# Altium integrated library Resistors.IntLib: 4954 symbols (part 24 of 32)
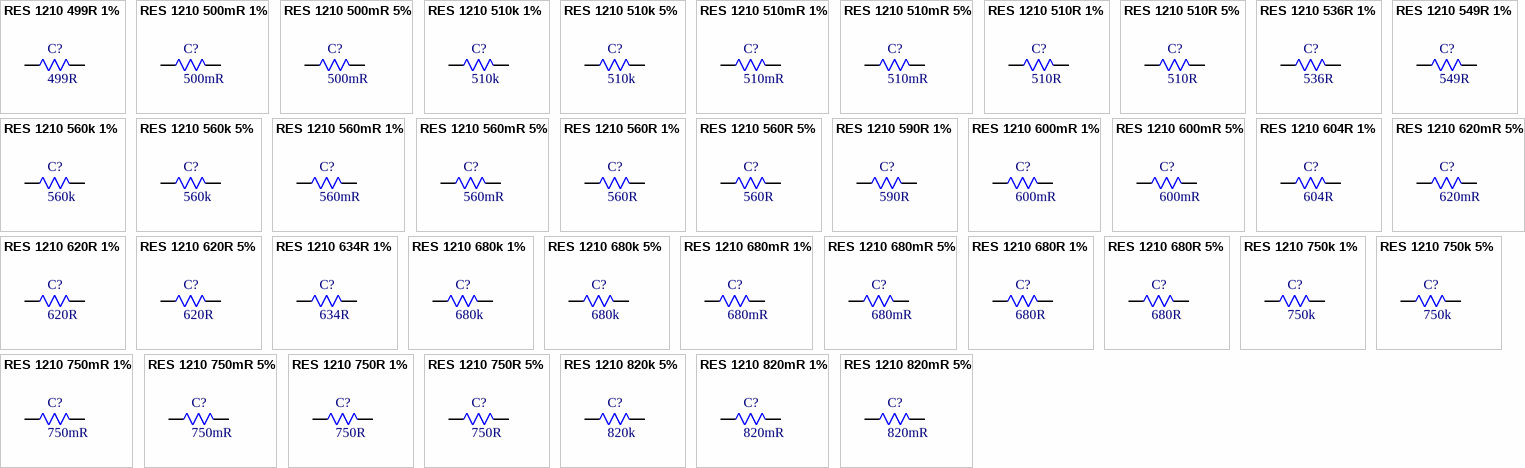
[diagram p146: symbols RES 1210 499R 1% to RES 1210 820mR 5%]

## RES 1210 820mR 1%
designator C?, comment 820mR
820mR 1% 500mW 1210 Thick Film Resistor; Manufacturer: FOJAN; Manufacturer Part Number: FRL1210FR820TS; Voltage Rating: 500V; Supplier: LCSC; Supplier Part Number: C2960866; Resistance: 820mR; Tolerance: 1%; Power: 500mW
footprint RES SMD 1210
pins: 1, 2

## RES 1210 820mR 5%
designator C?, comment 820mR
820mR 5% 500mW 1210 Thick Film Resistor; Manufacturer: FOJAN; Manufacturer Part Number: FRL1210JR820TS; Voltage Rating: 500V; Supplier: LCSC; Supplier Part Number: C2934340; Resistance: 820mR; Tolerance: 5%; Power: 500mW
footprint RES SMD 1210
pins: 1, 2

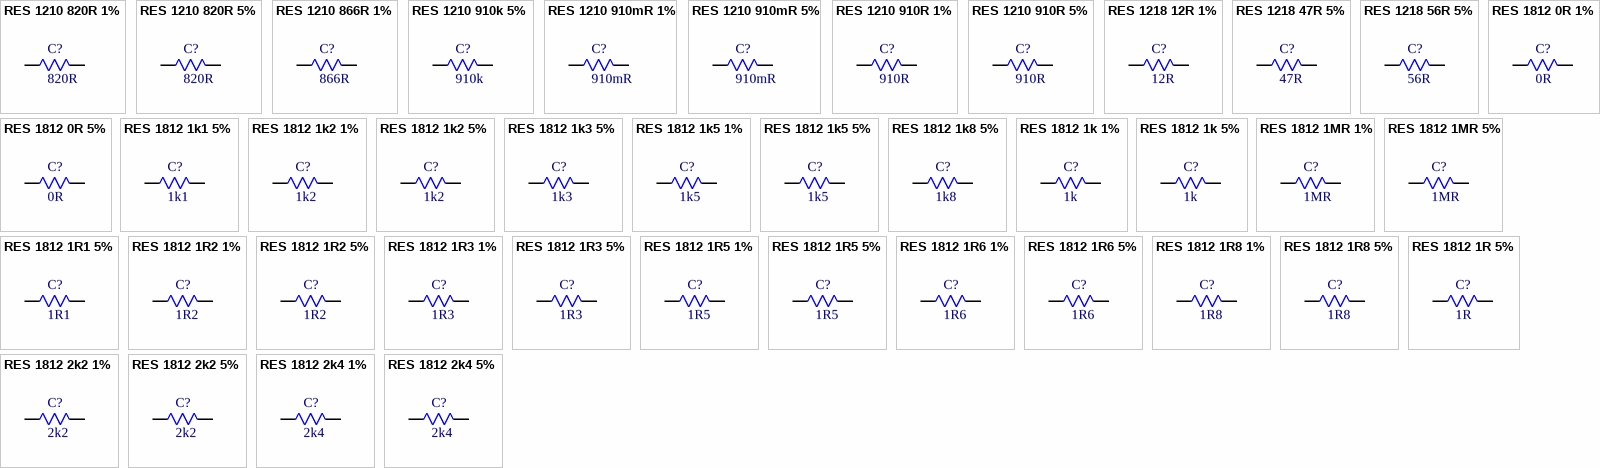
[diagram p92: symbols RES 1210 820R 1% to RES 1812 2k4 5%]

## RES 1210 820R 1%
designator C?, comment 820R
820R 1% 500mW 1210 Thick Film Resistor; Manufacturer: FOJAN; Manufacturer Part Number: FRC1210F8200TS; Voltage Rating: 200V; Supplier: LCSC; Supplier Part Number: C3013285; Resistance: 820R; Tolerance: 1%; Power: 500mW
footprint RES SMD 1210
pins: 1, 2

## RES 1210 820R 5%
designator C?, comment 820R
820R 5% 500mW 1210 Thick Film Resistor; Manufacturer: FOJAN; Manufacturer Part Number: FRC1210J821 TS; Voltage Rating: 200V; Supplier: LCSC; Supplier Part Number: C2907554; Resistance: 820R; Tolerance: 5%; Power: 500mW
footprint RES SMD 1210
pins: 1, 2

## RES 1210 866R 1%
designator C?, comment 866R
866R 1% 500mW 1210 Thick Film Resistor; Manufacturer: FOJAN; Manufacturer Part Number: FRC1210F8660TS; Voltage Rating: 200V; Supplier: LCSC; Supplier Part Number: C42372191; Resistance: 866R; Tolerance: 1%; Power: 500mW
footprint RES SMD 1210
pins: 1, 2

## RES 1210 910k 5%
designator C?, comment 910k
910kR 5% 500mW 1210 Thick Film Resistor; Manufacturer: FOJAN; Manufacturer Part Number: FRC1210J914 TS; Voltage Rating: 200V; Supplier: LCSC; Supplier Part Number: C5713345; Resistance: 910k; Tolerance: 5%; Power: 500mW
footprint RES SMD 1210
pins: 1, 2

## RES 1210 910mR 1%
designator C?, comment 910mR
910mR 1% 500mW 1210 Thick Film Resistor; Manufacturer: FOJAN; Manufacturer Part Number: FRL1210FR910TS; Voltage Rating: 500V; Supplier: LCSC; Supplier Part Number: C2960727; Resistance: 910mR; Tolerance: 1%; Power: 500mW
footprint RES SMD 1210
pins: 1, 2

## RES 1210 910mR 5%
designator C?, comment 910mR
910mR 5% 500mW 1210 Thick Film Resistor; Manufacturer: FOJAN; Manufacturer Part Number: FRL1210JR910TS; Voltage Rating: 500V; Supplier: LCSC; Supplier Part Number: C2930451; Resistance: 910mR; Tolerance: 5%; Power: 500mW
footprint RES SMD 1210
pins: 1, 2

## RES 1210 910R 1%
designator C?, comment 910R
910R 1% 500mW 1210 Thick Film Resistor; Manufacturer: FOJAN; Manufacturer Part Number: FRC1210F9100TS; Voltage Rating: 200V; Supplier: LCSC; Supplier Part Number: C3000546; Resistance: 910R; Tolerance: 1%; Power: 500mW
footprint RES SMD 1210
pins: 1, 2

## RES 1210 910R 5%
designator C?, comment 910R
910R 5% 500mW 1210 Thick Film Resistor; Manufacturer: FOJAN; Manufacturer Part Number: FRC1210J911 TS; Voltage Rating: 200V; Supplier: LCSC; Supplier Part Number: C3013290; Resistance: 910R; Tolerance: 5%; Power: 500mW
footprint RES SMD 1210
pins: 1, 2

## RES 1218 12R 1%
designator C?, comment 12R
1W 12R 200V Thick Film Resistor 1% 1218 Chip Resistor - Surface Mount RoHS; Manufacturer: FOJAN; Manufacturer Part Number: FRC1218F12R0TS; Supplier: LCSC; Supplier Part Number: C52033503; Resistance: 12R; Tolerance: 1%; Voltage Rating: 200V; Power: 1W
footprint RES SMD 1218
pins: 1, 2

## RES 1218 47R 5%
designator C?, comment 47R
1W 47R 200V Thick Film Resistor 5% 1218 Chip Resistor - Surface Mount RoHS; Manufacturer: FOJAN; Manufacturer Part Number: FRC1218J470 TS; Supplier: LCSC; Supplier Part Number: C52033504; Resistance: 47R; Tolerance: 5%; Voltage Rating: 200V; Power: 1W
footprint RES SMD 1218
pins: 1, 2

## RES 1218 56R 5%
designator C?, comment 56R
1W 56R 200V Thick Film Resistor 5% 1218 Chip Resistor - Surface Mount RoHS; Manufacturer: FOJAN; Manufacturer Part Number: FRC1218J560 TS; Supplier: LCSC; Supplier Part Number: C52033505; Resistance: 56R; Tolerance: 5%; Voltage Rating: 200V; Power: 1W
footprint RES SMD 1218
pins: 1, 2

## RES 1812 0R 1%
designator C?, comment 0R
0R 1% 750mW 1812 Thick Film Resistor; Manufacturer: FOJAN; Manufacturer Part Number: FRC1812F0000TS; Voltage Rating: 200V; Supplier: LCSC; Supplier Part Number: C2999613; Resistance: 0R; Tolerance: 1%; Power: 750mW
footprint RES SMD 1812
pins: 1, 2

## RES 1812 0R 5%
designator C?, comment 0R
750mW 0R 200V Thick Film Resistor 5% 1812 Chip Resistor - Surface Mount RoHS; Manufacturer: FOJAN; Manufacturer Part Number: FRC1812P000 TS; Supplier: LCSC; Supplier Part Number: C2907555; Resistance: 0R; Tolerance: 5%; Voltage Rating: 200V; Power: 750mW
footprint RES SMD 1812
pins: 1, 2

## RES 1812 1k1 5%
designator C?, comment 1k1
1.1kR 5% 750mW 1812 Thick Film Resistor; Manufacturer: FOJAN; Manufacturer Part Number: FRC1812J112 TS; Voltage Rating: 200V; Supplier: LCSC; Supplier Part Number: C3013294; Resistance: 1k1; Tolerance: 5%; Power: 750mW
footprint RES SMD 1812
pins: 1, 2

## RES 1812 1k2 1%
designator C?, comment 1k2
1.2kR 1% 750mW 1812 Thick Film Resistor; Manufacturer: FOJAN; Manufacturer Part Number: FRC1812F1201TS; Voltage Rating: 200V; Supplier: LCSC; Supplier Part Number: C5126083; Resistance: 1k2; Tolerance: 1%; Power: 750mW
footprint RES SMD 1812
pins: 1, 2

## RES 1812 1k2 5%
designator C?, comment 1k2
1.2kR 5% 750mW 1812 Thick Film Resistor; Manufacturer: FOJAN; Manufacturer Part Number: FRC1812J122 TS; Voltage Rating: 200V; Supplier: LCSC; Supplier Part Number: C2933920; Resistance: 1k2; Tolerance: 5%; Power: 750mW
footprint RES SMD 1812
pins: 1, 2

## RES 1812 1k3 5%
designator C?, comment 1k3
1.3kR 5% 750mW 1812 Thick Film Resistor; Manufacturer: FOJAN; Manufacturer Part Number: FRC1812J132 TS; Voltage Rating: 200V; Supplier: LCSC; Supplier Part Number: C2933923; Resistance: 1k3; Tolerance: 5%; Power: 750mW
footprint RES SMD 1812
pins: 1, 2

## RES 1812 1k5 1%
designator C?, comment 1k5
1.5kR 750mW 200V Thick Film Resistor 100ppm/â„ƒ 1% 1812 Chip Resistor - Surface Mount RoHS; Manufacturer: FOJAN; Manufacturer Part Number: FRC1812F1501TS; Supplier: LCSC; Supplier Part Number: C48533712; Resistance: 1k5; Tolerance: 1%; Voltage Rating: 200V; Power: 750mW
footprint RES SMD 1812
pins: 1, 2

## RES 1812 1k5 5%
designator C?, comment 1k5
1.5kR 5% 750mW 1812 Thick Film Resistor; Manufacturer: FOJAN; Manufacturer Part Number: FRC1812J152 TS; Voltage Rating: 200V; Supplier: LCSC; Supplier Part Number: C2933926; Resistance: 1k5; Tolerance: 5%; Power: 750mW
footprint RES SMD 1812
pins: 1, 2

## RES 1812 1k8 5%
designator C?, comment 1k8
1.8kR 5% 750mW 1812 Thick Film Resistor; Manufacturer: FOJAN; Manufacturer Part Number: FRC1812J182TS; Voltage Rating: 200V; Supplier: LCSC; Supplier Part Number: C3000614; Resistance: 1k8; Tolerance: 5%; Power: 750mW
footprint RES SMD 1812
pins: 1, 2

## RES 1812 1k 1%
designator C?, comment 1k
1kR 1% 750mW 1812 Thick Film Resistor; Manufacturer: FOJAN; Manufacturer Part Number: FRC1812F1001TS; Voltage Rating: 200V; Supplier: LCSC; Supplier Part Number: C2960710; Resistance: 1k; Tolerance: 1%; Power: 750mW
footprint RES SMD 1812
pins: 1, 2

## RES 1812 1k 5%
designator C?, comment 1k
1kR 5% 750mW 1812 Thick Film Resistor; Manufacturer: FOJAN; Manufacturer Part Number: FRC1812J102 TS; Voltage Rating: 200V; Supplier: LCSC; Supplier Part Number: C2933912; Resistance: 1k; Tolerance: 5%; Power: 750mW
footprint RES SMD 1812
pins: 1, 2

## RES 1812 1MR 1%
designator C?, comment 1MR
1MR 1% 750mW 1812 Thick Film Resistor; Manufacturer: FOJAN; Manufacturer Part Number: FRC1812F1004TS; Voltage Rating: 200V; Supplier: LCSC; Supplier Part Number: C2933874; Resistance: 1MR; Tolerance: 1%; Power: 750mW
footprint RES SMD 1812
pins: 1, 2

## RES 1812 1MR 5%
designator C?, comment 1MR
1MR 5% 750mW 1812 Thick Film Resistor; Manufacturer: FOJAN; Manufacturer Part Number: FRC1812J105 TS; Voltage Rating: 200V; Supplier: LCSC; Supplier Part Number: C2933914; Resistance: 1MR; Tolerance: 5%; Power: 750mW
footprint RES SMD 1812
pins: 1, 2

## RES 1812 1R1 5%
designator C?, comment 1R1
1.1R 5% 750mW 1812 Thick Film Resistor; Manufacturer: FOJAN; Manufacturer Part Number: FRC1812J1R1 TS; Voltage Rating: 200V; Supplier: LCSC; Supplier Part Number: C5713353; Resistance: 1R1; Tolerance: 5%; Power: 750mW
footprint RES SMD 1812
pins: 1, 2

## RES 1812 1R2 1%
designator C?, comment 1R2
1.2R 1% 750mW 1812 Thick Film Resistor; Manufacturer: FOJAN; Manufacturer Part Number: FRC1812F1R20TS; Voltage Rating: 200V; Supplier: LCSC; Supplier Part Number: C2974072; Resistance: 1R2; Tolerance: 1%; Power: 750mW
footprint RES SMD 1812
pins: 1, 2

## RES 1812 1R2 5%
designator C?, comment 1R2
1.2R 5% 750mW 1812 Thick Film Resistor; Manufacturer: FOJAN; Manufacturer Part Number: FRC1812J1R2 TS; Voltage Rating: 200V; Supplier: LCSC; Supplier Part Number: C3013295; Resistance: 1R2; Tolerance: 5%; Power: 750mW
footprint RES SMD 1812
pins: 1, 2

## RES 1812 1R3 1%
designator C?, comment 1R3
1.3R 1% 750mW 1812 Thick Film Resistor; Manufacturer: FOJAN; Manufacturer Part Number: FRC1812F1R30TS; Voltage Rating: 200V; Supplier: LCSC; Supplier Part Number: C3000594; Resistance: 1R3; Tolerance: 1%; Power: 750mW
footprint RES SMD 1812
pins: 1, 2

## RES 1812 1R3 5%
designator C?, comment 1R3
1.3R 750mW 200V Thick Film Resistor 200ppm/â„ƒ 5% 1812 Chip Resistor - Surface Mount RoHS; Manufacturer: FOJAN; Manufacturer Part Number: FRC1812J1R3 TS; Supplier: LCSC; Supplier Part Number: C7467341; Resistance: 1R3; Tolerance: 5%; Voltage Rating: 200V; Power: 750mW
footprint RES SMD 1812
pins: 1, 2

## RES 1812 1R5 1%
designator C?, comment 1R5
1.5R 750mW 200V Thick Film Resistor 200ppm/â„ƒ 1% 1812 Chip Resistor - Surface Mount RoHS; Manufacturer: FOJAN; Manufacturer Part Number: FRC1812F1R50TS; Supplier: LCSC; Supplier Part Number: C7467362; Resistance: 1R5; Tolerance: 1%; Voltage Rating: 200V; Power: 750mW
footprint RES SMD 1812
pins: 1, 2

## RES 1812 1R5 5%
designator C?, comment 1R5
1.5R 5% 750mW 1812 Thick Film Resistor; Manufacturer: FOJAN; Manufacturer Part Number: FRC1812J1R5 TS; Voltage Rating: 200V; Supplier: LCSC; Supplier Part Number: C5126019; Resistance: 1R5; Tolerance: 5%; Power: 750mW
footprint RES SMD 1812
pins: 1, 2

## RES 1812 1R6 1%
designator C?, comment 1R6
1.6R 1% 750mW 1812 Thick Film Resistor; Manufacturer: FOJAN; Manufacturer Part Number: FRC1812F1R60TS; Voltage Rating: 200V; Supplier: LCSC; Supplier Part Number: C5713346; Resistance: 1R6; Tolerance: 1%; Power: 750mW
footprint RES SMD 1812
pins: 1, 2

## RES 1812 1R6 5%
designator C?, comment 1R6
1.6R 5% 750mW 1812 Thick Film Resistor; Manufacturer: FOJAN; Manufacturer Part Number: FRC1812J1R6 TS; Voltage Rating: 200V; Supplier: LCSC; Supplier Part Number: C5126062; Resistance: 1R6; Tolerance: 5%; Power: 750mW
footprint RES SMD 1812
pins: 1, 2

## RES 1812 1R8 1%
designator C?, comment 1R8
1.8R 750mW 200V Thick Film Resistor 200ppm/â„ƒ 1% 1812 Chip Resistor - Surface Mount RoHS; Manufacturer: FOJAN; Manufacturer Part Number: FRC1812F1R80TS; Supplier: LCSC; Supplier Part Number: C7467389; Resistance: 1R8; Tolerance: 1%; Voltage Rating: 200V; Power: 750mW
footprint RES SMD 1812
pins: 1, 2

## RES 1812 1R8 5%
designator C?, comment 1R8
1.8R 5% 750mW 1812 Thick Film Resistor; Manufacturer: FOJAN; Manufacturer Part Number: FRC1812J1R8 TS; Voltage Rating: 200V; Supplier: LCSC; Supplier Part Number: C5126170; Resistance: 1R8; Tolerance: 5%; Power: 750mW
footprint RES SMD 1812
pins: 1, 2

## RES 1812 1R 5%
designator C?, comment 1R
1R 5% 750mW 1812 Thick Film Resistor; Manufacturer: FOJAN; Manufacturer Part Number: FRC1812J1R0 TS; Voltage Rating: 200V; Supplier: LCSC; Supplier Part Number: C2933931; Resistance: 1R; Tolerance: 5%; Power: 750mW
footprint RES SMD 1812
pins: 1, 2

## RES 1812 2k2 1%
designator C?, comment 2k2
2.2kR 1% 750mW 1812 Thick Film Resistor; Manufacturer: FOJAN; Manufacturer Part Number: FRC1812F2201TS; Voltage Rating: 200V; Supplier: LCSC; Supplier Part Number: C5159746; Resistance: 2k2; Tolerance: 1%; Power: 750mW
footprint RES SMD 1812
pins: 1, 2

## RES 1812 2k2 5%
designator C?, comment 2k2
2.2kR 5% 750mW 1812 Thick Film Resistor; Manufacturer: FOJAN; Manufacturer Part Number: FRC1812J222 TS; Voltage Rating: 200V; Supplier: LCSC; Supplier Part Number: C2933939; Resistance: 2k2; Tolerance: 5%; Power: 750mW
footprint RES SMD 1812
pins: 1, 2

## RES 1812 2k4 1%
designator C?, comment 2k4
2.4kR 750mW 200V Thick Film Resistor 100ppm/â„ƒ 1% 1812 Chip Resistor - Surface Mount RoHS; Manufacturer: FOJAN; Manufacturer Part Number: FRC1812F2401TS; Supplier: LCSC; Supplier Part Number: C18164307; Resistance: 2k4; Tolerance: 1%; Voltage Rating: 200V; Power: 750mW
footprint RES SMD 1812
pins: 1, 2

## RES 1812 2k4 5%
designator C?, comment 2k4
2.4kR 5% 750mW 1812 Thick Film Resistor; Manufacturer: FOJAN; Manufacturer Part Number: FRC1812J242TS; Voltage Rating: 200V; Supplier: LCSC; Supplier Part Number: C3000697; Resistance: 2k4; Tolerance: 5%; Power: 750mW
footprint RES SMD 1812
pins: 1, 2

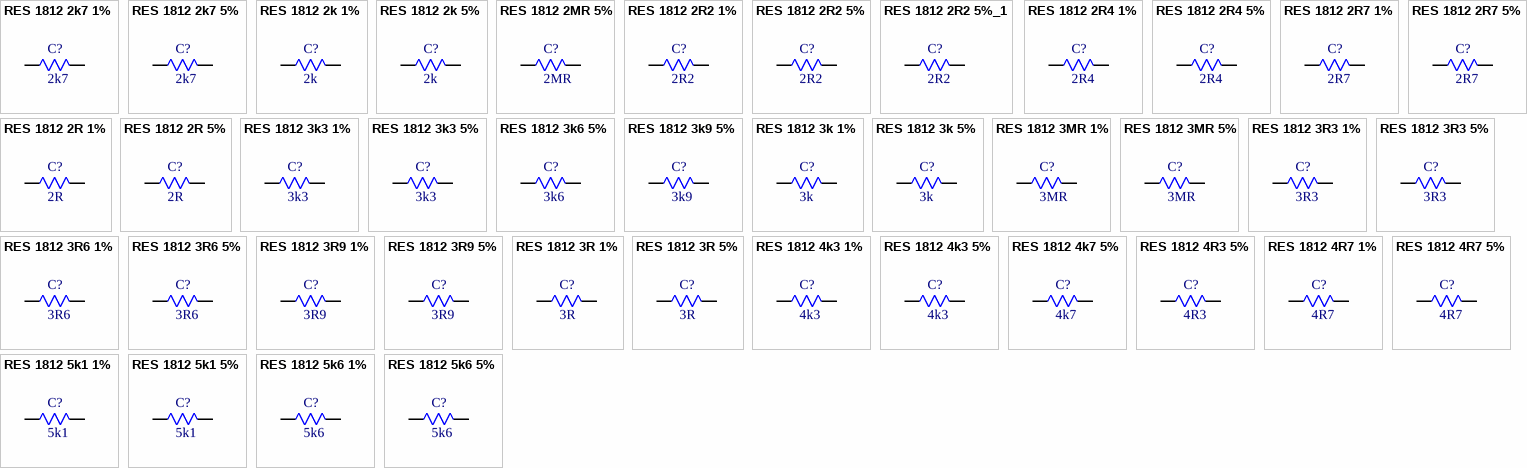
[diagram p93: symbols RES 1812 2k7 1% to RES 1812 5k6 5%]

## RES 1812 2k7 1%
designator C?, comment 2k7
2.7kR 1% 750mW 1812 Thick Film Resistor; Manufacturer: FOJAN; Manufacturer Part Number: FRC1812F2701TS; Voltage Rating: 200V; Supplier: LCSC; Supplier Part Number: C2974074; Resistance: 2k7; Tolerance: 1%; Power: 750mW
footprint RES SMD 1812
pins: 1, 2

## RES 1812 2k7 5%
designator C?, comment 2k7
2.7kR 5% 750mW 1812 Thick Film Resistor; Manufacturer: FOJAN; Manufacturer Part Number: FRC1812J272 TS; Voltage Rating: 200V; Supplier: LCSC; Supplier Part Number: C2933942; Resistance: 2k7; Tolerance: 5%; Power: 750mW
footprint RES SMD 1812
pins: 1, 2

## RES 1812 2k 1%
designator C?, comment 2k
2kR 1% 750mW 1812 Thick Film Resistor; Manufacturer: FOJAN; Manufacturer Part Number: FRC1812F2001TS; Voltage Rating: 200V; Supplier: LCSC; Supplier Part Number: C2999579; Resistance: 2k; Tolerance: 1%; Power: 750mW
footprint RES SMD 1812
pins: 1, 2

## RES 1812 2k 5%
designator C?, comment 2k
2kR 5% 750mW 1812 Thick Film Resistor; Manufacturer: FOJAN; Manufacturer Part Number: FRC1812J202 TS; Voltage Rating: 200V; Supplier: LCSC; Supplier Part Number: C2933934; Resistance: 2k; Tolerance: 5%; Power: 750mW
footprint RES SMD 1812
pins: 1, 2

## RES 1812 2MR 5%
designator C?, comment 2MR
2MR 5% 750mW 1812 Thick Film Resistor; Manufacturer: FOJAN; Manufacturer Part Number: FRC1812J205TS; Voltage Rating: 200V; Supplier: LCSC; Supplier Part Number: C3000784; Resistance: 2MR; Tolerance: 5%; Power: 750mW
footprint RES SMD 1812
pins: 1, 2

## RES 1812 2R2 1%
designator C?, comment 2R2
2.2R 1% 750mW 1812 Thick Film Resistor; Manufacturer: FOJAN; Manufacturer Part Number: FRC1812F2R20TS; Voltage Rating: 200V; Supplier: LCSC; Supplier Part Number: C2933890; Resistance: 2R2; Tolerance: 1%; Power: 750mW
footprint RES SMD 1812
pins: 1, 2

## RES 1812 2R2 5%
designator C?, comment 2R2
2.2R 5% 750mW 1812 Thick Film Resistor; Manufacturer: FOJAN; Manufacturer Part Number: FRC1812J2R2 TS; Voltage Rating: 200V; Supplier: LCSC; Supplier Part Number: C5126008; Resistance: 2R2; Tolerance: 5%; Power: 750mW
footprint RES SMD 1812
pins: 1, 2

## RES 1812 2R2 5%_1
designator C?, comment 2R2
2.2MR 5% 750mW 1812 Thick Film Resistor; Manufacturer: FOJAN; Manufacturer Part Number: FRC1812J225 TS; Voltage Rating: 200V; Supplier: LCSC; Supplier Part Number: C5713354; Resistance: 2R2; Tolerance: 5%; Power: 750mW
footprint RES SMD 1812
pins: 1, 2

## RES 1812 2R4 1%
designator C?, comment 2R4
2.4R 1% 750mW 1812 Thick Film Resistor; Manufacturer: FOJAN; Manufacturer Part Number: FRC1812F2R40TS; Voltage Rating: 200V; Supplier: LCSC; Supplier Part Number: C2933891; Resistance: 2R4; Tolerance: 1%; Power: 750mW
footprint RES SMD 1812
pins: 1, 2

## RES 1812 2R4 5%
designator C?, comment 2R4
2.4R 5% 750mW 1812 Thick Film Resistor; Manufacturer: FOJAN; Manufacturer Part Number: FRC1812J2R4 TS; Voltage Rating: 200V; Supplier: LCSC; Supplier Part Number: C5713355; Resistance: 2R4; Tolerance: 5%; Power: 750mW
footprint RES SMD 1812
pins: 1, 2

## RES 1812 2R7 1%
designator C?, comment 2R7
2.7R 1% 750mW 1812 Thick Film Resistor; Manufacturer: FOJAN; Manufacturer Part Number: FRC1812F2R70TS; Voltage Rating: 200V; Supplier: LCSC; Supplier Part Number: C2933892; Resistance: 2R7; Tolerance: 1%; Power: 750mW
footprint RES SMD 1812
pins: 1, 2

## RES 1812 2R7 5%
designator C?, comment 2R7
2.7R 5% 750mW 1812 Thick Film Resistor; Manufacturer: FOJAN; Manufacturer Part Number: FRC1812J2R7 TS; Voltage Rating: 200V; Supplier: LCSC; Supplier Part Number: C2933944; Resistance: 2R7; Tolerance: 5%; Power: 750mW
footprint RES SMD 1812
pins: 1, 2

## RES 1812 2R 1%
designator C?, comment 2R
2R 1% 750mW 1812 Thick Film Resistor; Manufacturer: FOJAN; Manufacturer Part Number: FRC1812F2R00TS; Voltage Rating: 200V; Supplier: LCSC; Supplier Part Number: C2933889; Resistance: 2R; Tolerance: 1%; Power: 750mW
footprint RES SMD 1812
pins: 1, 2

## RES 1812 2R 5%
designator C?, comment 2R
2R 5% 750mW 1812 Thick Film Resistor; Manufacturer: FOJAN; Manufacturer Part Number: FRC1812J2R0 TS; Voltage Rating: 200V; Supplier: LCSC; Supplier Part Number: C2933943; Resistance: 2R; Tolerance: 5%; Power: 750mW
footprint RES SMD 1812
pins: 1, 2

## RES 1812 3k3 1%
designator C?, comment 3k3
3.3kR 1% 750mW 1812 Thick Film Resistor; Manufacturer: FOJAN; Manufacturer Part Number: FRC1812F3301TS; Voltage Rating: 200V; Supplier: LCSC; Supplier Part Number: C5126084; Resistance: 3k3; Tolerance: 1%; Power: 750mW
footprint RES SMD 1812
pins: 1, 2

## RES 1812 3k3 5%
designator C?, comment 3k3
3.3kR 5% 750mW 1812 Thick Film Resistor; Manufacturer: FOJAN; Manufacturer Part Number: FRC1812J332 TS; Voltage Rating: 200V; Supplier: LCSC; Supplier Part Number: C2933951; Resistance: 3k3; Tolerance: 5%; Power: 750mW
footprint RES SMD 1812
pins: 1, 2

## RES 1812 3k6 5%
designator C?, comment 3k6
3.6kR 5% 750mW 1812 Thick Film Resistor; Manufacturer: FOJAN; Manufacturer Part Number: FRC1812J362 TS; Voltage Rating: 200V; Supplier: LCSC; Supplier Part Number: C2974083; Resistance: 3k6; Tolerance: 5%; Power: 750mW
footprint RES SMD 1812
pins: 1, 2

## RES 1812 3k9 5%
designator C?, comment 3k9
3.9kR 5% 750mW 1812 Thick Film Resistor; Manufacturer: FOJAN; Manufacturer Part Number: FRC1812J392 TS; Voltage Rating: 200V; Supplier: LCSC; Supplier Part Number: C2933956; Resistance: 3k9; Tolerance: 5%; Power: 750mW
footprint RES SMD 1812
pins: 1, 2

## RES 1812 3k 1%
designator C?, comment 3k
3kR 1% 750mW 1812 Thick Film Resistor; Manufacturer: FOJAN; Manufacturer Part Number: FRC1812F3001TS; Voltage Rating: 200V; Supplier: LCSC; Supplier Part Number: C5126114; Resistance: 3k; Tolerance: 1%; Power: 750mW
footprint RES SMD 1812
pins: 1, 2

## RES 1812 3k 5%
designator C?, comment 3k
3kR 5% 750mW 1812 Thick Film Resistor; Manufacturer: FOJAN; Manufacturer Part Number: FRC1812J302 TS; Voltage Rating: 200V; Supplier: LCSC; Supplier Part Number: C2933947; Resistance: 3k; Tolerance: 5%; Power: 750mW
footprint RES SMD 1812
pins: 1, 2

## RES 1812 3MR 1%
designator C?, comment 3MR
750mW 3MR 200V Thick Film Resistor 100ppm/â„ƒ 1% 1812 Chip Resistor - Surface Mount RoHS; Manufacturer: FOJAN; Manufacturer Part Number: FRC1812F3004TS; Supplier: LCSC; Supplier Part Number: C18164310; Resistance: 3MR; Tolerance: 1%; Voltage Rating: 200V; Power: 750mW
footprint RES SMD 1812
pins: 1, 2

## RES 1812 3MR 5%
designator C?, comment 3MR
3MR 5% 750mW 1812 Thick Film Resistor; Manufacturer: FOJAN; Manufacturer Part Number: FRC1812J305 TS; Voltage Rating: 200V; Supplier: LCSC; Supplier Part Number: C3013297; Resistance: 3MR; Tolerance: 5%; Power: 750mW
footprint RES SMD 1812
pins: 1, 2

## RES 1812 3R3 1%
designator C?, comment 3R3
3.3R 1% 750mW 1812 Thick Film Resistor; Manufacturer: FOJAN; Manufacturer Part Number: FRC1812F3R30TS; Voltage Rating: 200V; Supplier: LCSC; Supplier Part Number: C2974075; Resistance: 3R3; Tolerance: 1%; Power: 750mW
footprint RES SMD 1812
pins: 1, 2

## RES 1812 3R3 5%
designator C?, comment 3R3
3.3R 5% 750mW 1812 Thick Film Resistor; Manufacturer: FOJAN; Manufacturer Part Number: FRC1812J3R3 TS; Voltage Rating: 200V; Supplier: LCSC; Supplier Part Number: C5121558; Resistance: 3R3; Tolerance: 5%; Power: 750mW
footprint RES SMD 1812
pins: 1, 2

## RES 1812 3R6 1%
designator C?, comment 3R6
3.6R 1% 750mW 1812 Thick Film Resistor; Manufacturer: FOJAN; Manufacturer Part Number: FRC1812F3R60TS; Voltage Rating: 200V; Supplier: LCSC; Supplier Part Number: C5713349; Resistance: 3R6; Tolerance: 1%; Power: 750mW
footprint RES SMD 1812
pins: 1, 2

## RES 1812 3R6 5%
designator C?, comment 3R6
3.6R 5% 750mW 1812 Thick Film Resistor; Manufacturer: FOJAN; Manufacturer Part Number: FRC1812J3R6TS; Voltage Rating: 200V; Supplier: LCSC; Supplier Part Number: C3000617; Resistance: 3R6; Tolerance: 5%; Power: 750mW
footprint RES SMD 1812
pins: 1, 2

## RES 1812 3R9 1%
designator C?, comment 3R9
3.9R 1% 750mW 1812 Thick Film Resistor; Manufacturer: FOJAN; Manufacturer Part Number: FRC1812F3R90TS; Voltage Rating: 200V; Supplier: LCSC; Supplier Part Number: C5713350; Resistance: 3R9; Tolerance: 1%; Power: 750mW
footprint RES SMD 1812
pins: 1, 2

## RES 1812 3R9 5%
designator C?, comment 3R9
3.9R 5% 750mW 1812 Thick Film Resistor; Manufacturer: FOJAN; Manufacturer Part Number: FRC1812J3R9 TS; Voltage Rating: 200V; Supplier: LCSC; Supplier Part Number: C2960911; Resistance: 3R9; Tolerance: 5%; Power: 750mW
footprint RES SMD 1812
pins: 1, 2

## RES 1812 3R 1%
designator C?, comment 3R
3R 1% 750mW 1812 Thick Film Resistor; Manufacturer: FOJAN; Manufacturer Part Number: FRC1812F3R00TS; Voltage Rating: 200V; Supplier: LCSC; Supplier Part Number: C5126169; Resistance: 3R; Tolerance: 1%; Power: 750mW
footprint RES SMD 1812
pins: 1, 2

## RES 1812 3R 5%
designator C?, comment 3R
3R 5% 750mW 1812 Thick Film Resistor; Manufacturer: FOJAN; Manufacturer Part Number: FRC1812J3R0 TS; Voltage Rating: 200V; Supplier: LCSC; Supplier Part Number: C2933957; Resistance: 3R; Tolerance: 5%; Power: 750mW
footprint RES SMD 1812
pins: 1, 2

## RES 1812 4k3 1%
designator C?, comment 4k3
4.3kR 1% 750mW 1812 Thick Film Resistor; Manufacturer: FOJAN; Manufacturer Part Number: FRC1812F4301TS; Voltage Rating: 200V; Supplier: LCSC; Supplier Part Number: C3000760; Resistance: 4k3; Tolerance: 1%; Power: 750mW
footprint RES SMD 1812
pins: 1, 2

## RES 1812 4k3 5%
designator C?, comment 4k3
4.3kR 5% 750mW 1812 Thick Film Resistor; Manufacturer: FOJAN; Manufacturer Part Number: FRC1812J432 TS; Voltage Rating: 200V; Supplier: LCSC; Supplier Part Number: C2960909; Resistance: 4k3; Tolerance: 5%; Power: 750mW
footprint RES SMD 1812
pins: 1, 2

## RES 1812 4k7 5%
designator C?, comment 4k7
4.7kR 5% 750mW 1812 Thick Film Resistor; Manufacturer: FOJAN; Manufacturer Part Number: FRC1812J472 TS; Voltage Rating: 200V; Supplier: LCSC; Supplier Part Number: C2933961; Resistance: 4k7; Tolerance: 5%; Power: 750mW
footprint RES SMD 1812
pins: 1, 2

## RES 1812 4R3 5%
designator C?, comment 4R3
4.3R 750mW 200V Thick Film Resistor 200ppm/â„ƒ 5% 1812 Chip Resistor - Surface Mount RoHS; Manufacturer: FOJAN; Manufacturer Part Number: FRC1812J4R3 TS; Supplier: LCSC; Supplier Part Number: C7467340; Resistance: 4R3; Tolerance: 5%; Voltage Rating: 200V; Power: 750mW
footprint RES SMD 1812
pins: 1, 2

## RES 1812 4R7 1%
designator C?, comment 4R7
4.7R 1% 750mW 1812 Thick Film Resistor; Manufacturer: FOJAN; Manufacturer Part Number: FRC1812F4R70TS; Voltage Rating: 200V; Supplier: LCSC; Supplier Part Number: C2933898; Resistance: 4R7; Tolerance: 1%; Power: 750mW
footprint RES SMD 1812
pins: 1, 2

## RES 1812 4R7 5%
designator C?, comment 4R7
4.7R 5% 750mW 1812 Thick Film Resistor; Manufacturer: FOJAN; Manufacturer Part Number: FRC1812J4R7 TS; Voltage Rating: 200V; Supplier: LCSC; Supplier Part Number: C2933963; Resistance: 4R7; Tolerance: 5%; Power: 750mW
footprint RES SMD 1812
pins: 1, 2

## RES 1812 5k1 1%
designator C?, comment 5k1
5.1kR 1% 750mW 1812 Thick Film Resistor; Manufacturer: FOJAN; Manufacturer Part Number: FRC1812F5101TS; Voltage Rating: 200V; Supplier: LCSC; Supplier Part Number: C2933899; Resistance: 5k1; Tolerance: 1%; Power: 750mW
footprint RES SMD 1812
pins: 1, 2

## RES 1812 5k1 5%
designator C?, comment 5k1
5.1kR 5% 750mW 1812 Thick Film Resistor; Manufacturer: FOJAN; Manufacturer Part Number: FRC1812J512 TS; Voltage Rating: 200V; Supplier: LCSC; Supplier Part Number: C2933965; Resistance: 5k1; Tolerance: 5%; Power: 750mW
footprint RES SMD 1812
pins: 1, 2

## RES 1812 5k6 1%
designator C?, comment 5k6
5.6kR 1% 750mW 1812 Thick Film Resistor; Manufacturer: FOJAN; Manufacturer Part Number: FRC1812F5601TS; Voltage Rating: 200V; Supplier: LCSC; Supplier Part Number: C3000548; Resistance: 5k6; Tolerance: 1%; Power: 750mW
footprint RES SMD 1812
pins: 1, 2

## RES 1812 5k6 5%
designator C?, comment 5k6
5.6kR 5% 750mW 1812 Thick Film Resistor; Manufacturer: FOJAN; Manufacturer Part Number: FRC1812J562 TS; Voltage Rating: 200V; Supplier: LCSC; Supplier Part Number: C5126115; Resistance: 5k6; Tolerance: 5%; Power: 750mW
footprint RES SMD 1812
pins: 1, 2

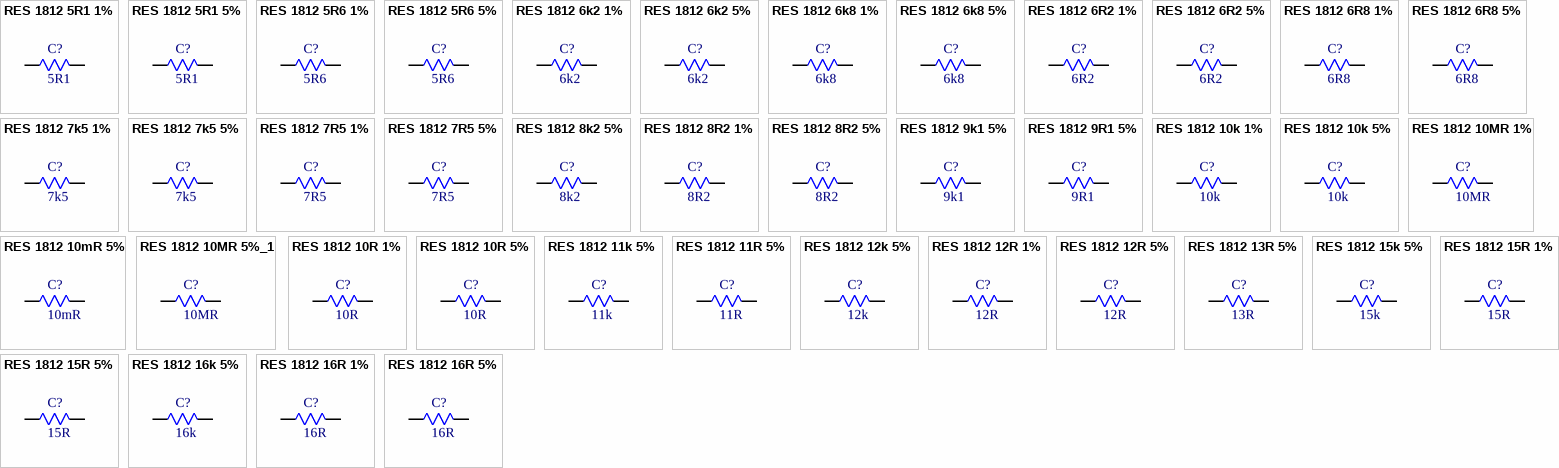
[diagram p94: symbols RES 1812 5R1 1% to RES 1812 16R 5%]

## RES 1812 5R1 1%
designator C?, comment 5R1
5.1R 750mW 200V Thick Film Resistor 200ppm/â„ƒ 1% 1812 Chip Resistor - Surface Mount RoHS; Manufacturer: FOJAN; Manufacturer Part Number: FRC1812F5R10TS; Supplier: LCSC; Supplier Part Number: C7467383; Resistance: 5R1; Tolerance: 1%; Voltage Rating: 200V; Power: 750mW
footprint RES SMD 1812
pins: 1, 2

## RES 1812 5R1 5%
designator C?, comment 5R1
5.1R 5% 750mW 1812 Thick Film Resistor; Manufacturer: FOJAN; Manufacturer Part Number: FRC1812J5R1 TS; Voltage Rating: 200V; Supplier: LCSC; Supplier Part Number: C2933968; Resistance: 5R1; Tolerance: 5%; Power: 750mW
footprint RES SMD 1812
pins: 1, 2

## RES 1812 5R6 1%
designator C?, comment 5R6
5.6R 1% 750mW 1812 Thick Film Resistor; Manufacturer: FOJAN; Manufacturer Part Number: FRC1812F5R60TS; Voltage Rating: 200V; Supplier: LCSC; Supplier Part Number: C2933904; Resistance: 5R6; Tolerance: 1%; Power: 750mW
footprint RES SMD 1812
pins: 1, 2

## RES 1812 5R6 5%
designator C?, comment 5R6
5.6R 5% 750mW 1812 Thick Film Resistor; Manufacturer: FOJAN; Manufacturer Part Number: FRC1812J5R6 TS; Voltage Rating: 200V; Supplier: LCSC; Supplier Part Number: C2933969; Resistance: 5R6; Tolerance: 5%; Power: 750mW
footprint RES SMD 1812
pins: 1, 2

## RES 1812 6k2 1%
designator C?, comment 6k2
6.2kR 1% 750mW 1812 Thick Film Resistor; Manufacturer: FOJAN; Manufacturer Part Number: FRC1812F6201TS; Voltage Rating: 200V; Supplier: LCSC; Supplier Part Number: C2933905; Resistance: 6k2; Tolerance: 1%; Power: 750mW
footprint RES SMD 1812
pins: 1, 2

## RES 1812 6k2 5%
designator C?, comment 6k2
6.2kR 5% 750mW 1812 Thick Film Resistor; Manufacturer: FOJAN; Manufacturer Part Number: FRC1812J622 TS; Voltage Rating: 200V; Supplier: LCSC; Supplier Part Number: C2933972; Resistance: 6k2; Tolerance: 5%; Power: 750mW
footprint RES SMD 1812
pins: 1, 2

## RES 1812 6k8 1%
designator C?, comment 6k8
6.8kR 1% 750mW 1812 Thick Film Resistor; Manufacturer: FOJAN; Manufacturer Part Number: FRC1812F6801TS; Voltage Rating: 200V; Supplier: LCSC; Supplier Part Number: C2933906; Resistance: 6k8; Tolerance: 1%; Power: 750mW
footprint RES SMD 1812
pins: 1, 2

## RES 1812 6k8 5%
designator C?, comment 6k8
6.8kR 5% 750mW 1812 Thick Film Resistor; Manufacturer: FOJAN; Manufacturer Part Number: FRC1812J682 TS; Voltage Rating: 200V; Supplier: LCSC; Supplier Part Number: C5204034; Resistance: 6k8; Tolerance: 5%; Power: 750mW
footprint RES SMD 1812
pins: 1, 2

## RES 1812 6R2 1%
designator C?, comment 6R2
6.2R 1% 750mW 1812 Thick Film Resistor; Manufacturer: FOJAN; Manufacturer Part Number: FRC1812F6R20TS; Voltage Rating: 200V; Supplier: LCSC; Supplier Part Number: C2933907; Resistance: 6R2; Tolerance: 1%; Power: 750mW
footprint RES SMD 1812
pins: 1, 2

## RES 1812 6R2 5%
designator C?, comment 6R2
6.2R 5% 750mW 1812 Thick Film Resistor; Manufacturer: FOJAN; Manufacturer Part Number: FRC1812J6R2 TS; Voltage Rating: 200V; Supplier: LCSC; Supplier Part Number: C2960719; Resistance: 6R2; Tolerance: 5%; Power: 750mW
footprint RES SMD 1812
pins: 1, 2

## RES 1812 6R8 1%
designator C?, comment 6R8
6.8R 750mW 200V Thick Film Resistor 100ppm/â„ƒ 1% 1812 Chip Resistor - Surface Mount RoHS; Manufacturer: FOJAN; Manufacturer Part Number: FRC1812F6R80TS; Supplier: LCSC; Supplier Part Number: C18164295; Resistance: 6R8; Tolerance: 1%; Voltage Rating: 200V; Power: 750mW
footprint RES SMD 1812
pins: 1, 2

## RES 1812 6R8 5%
designator C?, comment 6R8
6.8R 5% 750mW 1812 Thick Film Resistor; Manufacturer: FOJAN; Manufacturer Part Number: FRC1812J6R8 TS; Voltage Rating: 200V; Supplier: LCSC; Supplier Part Number: C2960907; Resistance: 6R8; Tolerance: 5%; Power: 750mW
footprint RES SMD 1812
pins: 1, 2

## RES 1812 7k5 1%
designator C?, comment 7k5
7.5kR 1% 750mW 1812 Thick Film Resistor; Manufacturer: FOJAN; Manufacturer Part Number: FRC1812F7501TS; Voltage Rating: 200V; Supplier: LCSC; Supplier Part Number: C2974078; Resistance: 7k5; Tolerance: 1%; Power: 750mW
footprint RES SMD 1812
pins: 1, 2

## RES 1812 7k5 5%
designator C?, comment 7k5
7.5kR 750mW 200V Thick Film Resistor 5% 100ppm/â„ƒ 1812 Chip Resistor - Surface Mount RoHS; Manufacturer: FOJAN; Manufacturer Part Number: FRC1812J752 TS; Supplier: LCSC; Supplier Part Number: C7467391; Resistance: 7k5; Tolerance: 5%; Voltage Rating: 200V; Power: 750mW
footprint RES SMD 1812
pins: 1, 2

## RES 1812 7R5 1%
designator C?, comment 7R5
7.5R 1% 750mW 1812 Thick Film Resistor; Manufacturer: FOJAN; Manufacturer Part Number: FRC1812F7R50TS; Voltage Rating: 200V; Supplier: LCSC; Supplier Part Number: C2974079; Resistance: 7R5; Tolerance: 1%; Power: 750mW
footprint RES SMD 1812
pins: 1, 2

## RES 1812 7R5 5%
designator C?, comment 7R5
7.5R 5% 750mW 1812 Thick Film Resistor; Manufacturer: FOJAN; Manufacturer Part Number: FRC1812J7R5 TS; Voltage Rating: 200V; Supplier: LCSC; Supplier Part Number: C5204035; Resistance: 7R5; Tolerance: 5%; Power: 750mW
footprint RES SMD 1812
pins: 1, 2

## RES 1812 8k2 5%
designator C?, comment 8k2
8.2kR 5% 750mW 1812 Thick Film Resistor; Manufacturer: FOJAN; Manufacturer Part Number: FRC1812J822 TS; Voltage Rating: 200V; Supplier: LCSC; Supplier Part Number: C3013298; Resistance: 8k2; Tolerance: 5%; Power: 750mW
footprint RES SMD 1812
pins: 1, 2

## RES 1812 8R2 1%
designator C?, comment 8R2
8.2R 1% 750mW 1812 Thick Film Resistor; Manufacturer: FOJAN; Manufacturer Part Number: FRC1812F8R20TS; Voltage Rating: 200V; Supplier: LCSC; Supplier Part Number: C5126213; Resistance: 8R2; Tolerance: 1%; Power: 750mW
footprint RES SMD 1812
pins: 1, 2

## RES 1812 8R2 5%
designator C?, comment 8R2
8.2R 5% 750mW 1812 Thick Film Resistor; Manufacturer: FOJAN; Manufacturer Part Number: FRC1812J8R2 TS; Voltage Rating: 200V; Supplier: LCSC; Supplier Part Number: C2960879; Resistance: 8R2; Tolerance: 5%; Power: 750mW
footprint RES SMD 1812
pins: 1, 2

## RES 1812 9k1 5%
designator C?, comment 9k1
9.1kR 5% 750mW 1812 Thick Film Resistor; Manufacturer: FOJAN; Manufacturer Part Number: FRC1812J912 TS; Voltage Rating: 200V; Supplier: LCSC; Supplier Part Number: C5713360; Resistance: 9k1; Tolerance: 5%; Power: 750mW
footprint RES SMD 1812
pins: 1, 2

## RES 1812 9R1 5%
designator C?, comment 9R1
9.1R 5% 750mW 1812 Thick Film Resistor; Manufacturer: FOJAN; Manufacturer Part Number: FRC1812J9R1TS; Voltage Rating: 200V; Supplier: LCSC; Supplier Part Number: C3000619; Resistance: 9R1; Tolerance: 5%; Power: 750mW
footprint RES SMD 1812
pins: 1, 2

## RES 1812 10k 1%
designator C?, comment 10k
10kR 1% 750mW 1812 Thick Film Resistor; Manufacturer: FOJAN; Manufacturer Part Number: FRC1812F1002TS; Voltage Rating: 200V; Supplier: LCSC; Supplier Part Number: C2999614; Resistance: 10k; Tolerance: 1%; Power: 750mW
footprint RES SMD 1812
pins: 1, 2

## RES 1812 10k 5%
designator C?, comment 10k
10kR 5% 750mW 1812 Thick Film Resistor; Manufacturer: FOJAN; Manufacturer Part Number: FRC1812J103 TS; Voltage Rating: 200V; Supplier: LCSC; Supplier Part Number: C2933913; Resistance: 10k; Tolerance: 5%; Power: 750mW
footprint RES SMD 1812
pins: 1, 2

## RES 1812 10MR 1%
designator C?, comment 10MR
10MR 1% 750mW 1812 Thick Film Resistor; Manufacturer: FOJAN; Manufacturer Part Number: FRC1812F1005TS; Voltage Rating: 200V; Supplier: LCSC; Supplier Part Number: C5204030; Resistance: 10MR; Tolerance: 1%; Power: 750mW
footprint RES SMD 1812
pins: 1, 2

## RES 1812 10mR 5%
designator C?, comment 10mR
10mR 750mW Thick Film Resistor 5% 1812 Chip Resistor - Surface Mount RoHS; Manufacturer: FOJAN; Manufacturer Part Number: FRL1812JR010TS; Supplier: LCSC; Supplier Part Number: C7467399; Resistance: 10mR; Tolerance: 5%; Power: 750mW
footprint RES SMD 1812
pins: 1, 2

## RES 1812 10MR 5%_1
designator C?, comment 10MR
10MR 5% 750mW 1812 Thick Film Resistor; Manufacturer: FOJAN; Manufacturer Part Number: FRC1812J106 TS; Voltage Rating: 200V; Supplier: LCSC; Supplier Part Number: C2974080; Resistance: 10MR; Tolerance: 5%; Power: 750mW
footprint RES SMD 1812
pins: 1, 2

## RES 1812 10R 1%
designator C?, comment 10R
10R 1% 750mW 1812 Thick Film Resistor; Manufacturer: FOJAN; Manufacturer Part Number: FRC1812F10R0TS; Voltage Rating: 200V; Supplier: LCSC; Supplier Part Number: C2933875; Resistance: 10R; Tolerance: 1%; Power: 750mW
footprint RES SMD 1812
pins: 1, 2

## RES 1812 10R 5%
designator C?, comment 10R
10R 5% 750mW 1812 Thick Film Resistor; Manufacturer: FOJAN; Manufacturer Part Number: FRC1812J100 TS; Voltage Rating: 200V; Supplier: LCSC; Supplier Part Number: C2933910; Resistance: 10R; Tolerance: 5%; Power: 750mW
footprint RES SMD 1812
pins: 1, 2

## RES 1812 11k 5%
designator C?, comment 11k
11kR 5% 750mW 1812 Thick Film Resistor; Manufacturer: FOJAN; Manufacturer Part Number: FRC1812J113TS; Voltage Rating: 200V; Supplier: LCSC; Supplier Part Number: C3000615; Resistance: 11k; Tolerance: 5%; Power: 750mW
footprint RES SMD 1812
pins: 1, 2

## RES 1812 11R 5%
designator C?, comment 11R
11R 5% 750mW 1812 Thick Film Resistor; Manufacturer: FOJAN; Manufacturer Part Number: FRC1812J110 TS; Voltage Rating: 200V; Supplier: LCSC; Supplier Part Number: C2933915; Resistance: 11R; Tolerance: 5%; Power: 750mW
footprint RES SMD 1812
pins: 1, 2

## RES 1812 12k 5%
designator C?, comment 12k
12kR 5% 750mW 1812 Thick Film Resistor; Manufacturer: FOJAN; Manufacturer Part Number: FRC1812J123 TS; Voltage Rating: 200V; Supplier: LCSC; Supplier Part Number: C2974081; Resistance: 12k; Tolerance: 5%; Power: 750mW
footprint RES SMD 1812
pins: 1, 2

## RES 1812 12R 1%
designator C?, comment 12R
12R 1% 750mW 1812 Thick Film Resistor; Manufacturer: FOJAN; Manufacturer Part Number: FRC1812F12R0TS; Voltage Rating: 200V; Supplier: LCSC; Supplier Part Number: C3000759; Resistance: 12R; Tolerance: 1%; Power: 750mW
footprint RES SMD 1812
pins: 1, 2

## RES 1812 12R 5%
designator C?, comment 12R
12R 5% 750mW 1812 Thick Film Resistor; Manufacturer: FOJAN; Manufacturer Part Number: FRC1812J120 TS; Voltage Rating: 200V; Supplier: LCSC; Supplier Part Number: C2933918; Resistance: 12R; Tolerance: 5%; Power: 750mW
footprint RES SMD 1812
pins: 1, 2

## RES 1812 13R 5%
designator C?, comment 13R
13R 5% 750mW 1812 Thick Film Resistor; Manufacturer: FOJAN; Manufacturer Part Number: FRC1812J130 TS; Voltage Rating: 200V; Supplier: LCSC; Supplier Part Number: C5126250; Resistance: 13R; Tolerance: 5%; Power: 750mW
footprint RES SMD 1812
pins: 1, 2

## RES 1812 15k 5%
designator C?, comment 15k
15kR 5% 750mW 1812 Thick Film Resistor; Manufacturer: FOJAN; Manufacturer Part Number: FRC1812J153 TS; Voltage Rating: 200V; Supplier: LCSC; Supplier Part Number: C2933927; Resistance: 15k; Tolerance: 5%; Power: 750mW
footprint RES SMD 1812
pins: 1, 2

## RES 1812 15R 1%
designator C?, comment 15R
15R 1% 750mW 1812 Thick Film Resistor; Manufacturer: FOJAN; Manufacturer Part Number: FRC1812F15R0TS; Voltage Rating: 200V; Supplier: LCSC; Supplier Part Number: C2933880; Resistance: 15R; Tolerance: 1%; Power: 750mW
footprint RES SMD 1812
pins: 1, 2

## RES 1812 15R 5%
designator C?, comment 15R
15R 5% 750mW 1812 Thick Film Resistor; Manufacturer: FOJAN; Manufacturer Part Number: FRC1812J150 TS; Voltage Rating: 200V; Supplier: LCSC; Supplier Part Number: C2933924; Resistance: 15R; Tolerance: 5%; Power: 750mW
footprint RES SMD 1812
pins: 1, 2

## RES 1812 16k 5%
designator C?, comment 16k
16kR 5% 750mW 1812 Thick Film Resistor; Manufacturer: FOJAN; Manufacturer Part Number: FRC1812J163TS; Voltage Rating: 200V; Supplier: LCSC; Supplier Part Number: C3000782; Resistance: 16k; Tolerance: 5%; Power: 750mW
footprint RES SMD 1812
pins: 1, 2

## RES 1812 16R 1%
designator C?, comment 16R
16R 1% 750mW 1812 Thick Film Resistor; Manufacturer: FOJAN; Manufacturer Part Number: FRC1812F16R0TS; Voltage Rating: 200V; Supplier: LCSC; Supplier Part Number: C2933881; Resistance: 16R; Tolerance: 1%; Power: 750mW
footprint RES SMD 1812
pins: 1, 2

## RES 1812 16R 5%
designator C?, comment 16R
16R 5% 750mW 1812 Thick Film Resistor; Manufacturer: FOJAN; Manufacturer Part Number: FRC1812J160 TS; Voltage Rating: 200V; Supplier: LCSC; Supplier Part Number: C5713352; Resistance: 16R; Tolerance: 5%; Power: 750mW
footprint RES SMD 1812
pins: 1, 2

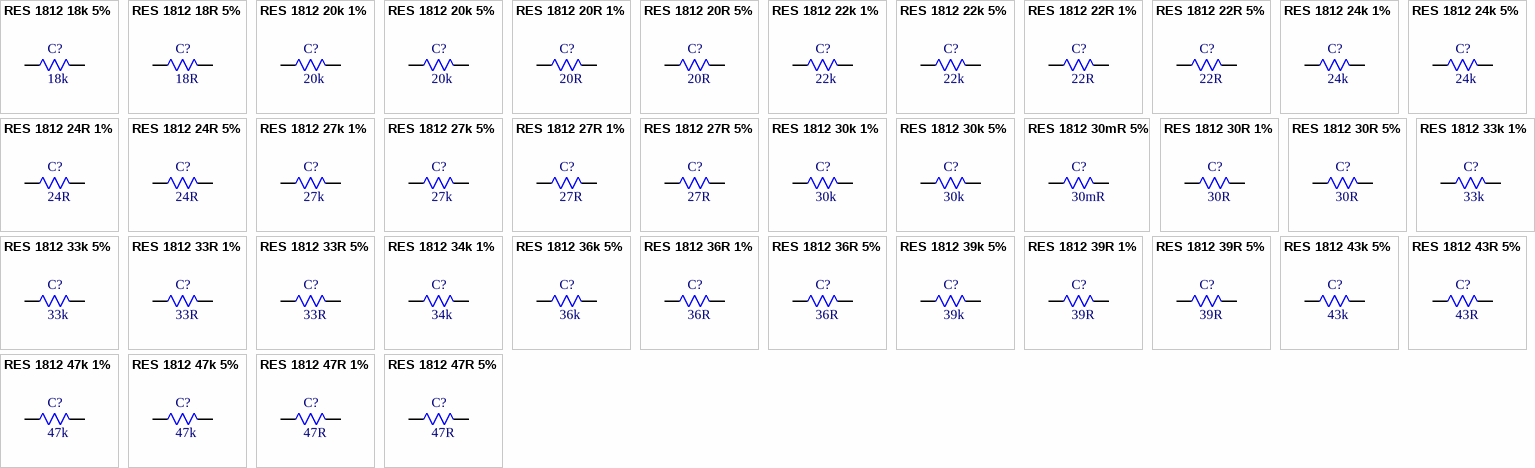
[diagram p95: symbols RES 1812 18k 5% to RES 1812 47R 5%]

## RES 1812 18k 5%
designator C?, comment 18k
18kR 5% 750mW 1812 Thick Film Resistor; Manufacturer: FOJAN; Manufacturer Part Number: FRC1812J183 TS; Voltage Rating: 200V; Supplier: LCSC; Supplier Part Number: C2933930; Resistance: 18k; Tolerance: 5%; Power: 750mW
footprint RES SMD 1812
pins: 1, 2

## RES 1812 18R 5%
designator C?, comment 18R
18R 5% 750mW 1812 Thick Film Resistor; Manufacturer: FOJAN; Manufacturer Part Number: FRC1812J180 TS; Voltage Rating: 200V; Supplier: LCSC; Supplier Part Number: C2933929; Resistance: 18R; Tolerance: 5%; Power: 750mW
footprint RES SMD 1812
pins: 1, 2

## RES 1812 20k 1%
designator C?, comment 20k
750mW 20kR 200V Thick Film Resistor 1% 1812 Chip Resistor - Surface Mount RoHS; Manufacturer: FOJAN; Manufacturer Part Number: FRC1812F2002TS; Supplier: LCSC; Supplier Part Number: C51048335; Resistance: 20k; Tolerance: 1%; Voltage Rating: 200V; Power: 750mW
footprint RES SMD 1812
pins: 1, 2

## RES 1812 20k 5%
designator C?, comment 20k
20kR 5% 750mW 1812 Thick Film Resistor; Manufacturer: FOJAN; Manufacturer Part Number: FRC1812J203 TS; Voltage Rating: 200V; Supplier: LCSC; Supplier Part Number: C2933935; Resistance: 20k; Tolerance: 5%; Power: 750mW
footprint RES SMD 1812
pins: 1, 2

## RES 1812 20R 1%
designator C?, comment 20R
20R 1% 750mW 1812 Thick Film Resistor; Manufacturer: FOJAN; Manufacturer Part Number: FRC1812F20R0TS; Voltage Rating: 200V; Supplier: LCSC; Supplier Part Number: C2933884; Resistance: 20R; Tolerance: 1%; Power: 750mW
footprint RES SMD 1812
pins: 1, 2

## RES 1812 20R 5%
designator C?, comment 20R
20R 5% 750mW 1812 Thick Film Resistor; Manufacturer: FOJAN; Manufacturer Part Number: FRC1812J200 TS; Voltage Rating: 200V; Supplier: LCSC; Supplier Part Number: C2933932; Resistance: 20R; Tolerance: 5%; Power: 750mW
footprint RES SMD 1812
pins: 1, 2

## RES 1812 22k 1%
designator C?, comment 22k
22kR 750mW 200V Thick Film Resistor 100ppm/â„ƒ 1% 1812 Chip Resistor - Surface Mount RoHS; Manufacturer: FOJAN; Manufacturer Part Number: FRC1812F2202TS; Supplier: LCSC; Supplier Part Number: C18164308; Resistance: 22k; Tolerance: 1%; Voltage Rating: 200V; Power: 750mW
footprint RES SMD 1812
pins: 1, 2

## RES 1812 22k 5%
designator C?, comment 22k
22kR 5% 750mW 1812 Thick Film Resistor; Manufacturer: FOJAN; Manufacturer Part Number: FRC1812J223 TS; Voltage Rating: 200V; Supplier: LCSC; Supplier Part Number: C2974082; Resistance: 22k; Tolerance: 5%; Power: 750mW
footprint RES SMD 1812
pins: 1, 2

## RES 1812 22R 1%
designator C?, comment 22R
22R 1% 750mW 1812 Thick Film Resistor; Manufacturer: FOJAN; Manufacturer Part Number: FRC1812F22R0TS; Voltage Rating: 200V; Supplier: LCSC; Supplier Part Number: C3013291; Resistance: 22R; Tolerance: 1%; Power: 750mW
footprint RES SMD 1812
pins: 1, 2

## RES 1812 22R 5%
designator C?, comment 22R
22R 5% 750mW 1812 Thick Film Resistor; Manufacturer: FOJAN; Manufacturer Part Number: FRC1812J220 TS; Voltage Rating: 200V; Supplier: LCSC; Supplier Part Number: C2933937; Resistance: 22R; Tolerance: 5%; Power: 750mW
footprint RES SMD 1812
pins: 1, 2

## RES 1812 24k 1%
designator C?, comment 24k
750mW 24kR Thick Film Resistor 1% 100ppm/â„ƒ 1812 Chip Resistor - Surface Mount RoHS; Manufacturer: FOJAN; Manufacturer Part Number: FRC1812F2402TS; Supplier: LCSC; Supplier Part Number: C7467408; Resistance: 24k; Tolerance: 1%; Power: 750mW
footprint RES SMD 1812
pins: 1, 2

## RES 1812 24k 5%
designator C?, comment 24k
24kR 5% 750mW 1812 Thick Film Resistor; Manufacturer: FOJAN; Manufacturer Part Number: FRC1812J243 TS; Voltage Rating: 200V; Supplier: LCSC; Supplier Part Number: C5126178; Resistance: 24k; Tolerance: 5%; Power: 750mW
footprint RES SMD 1812
pins: 1, 2

## RES 1812 24R 1%
designator C?, comment 24R
24R 1% 750mW 1812 Thick Film Resistor; Manufacturer: FOJAN; Manufacturer Part Number: FRC1812F24R0TS; Voltage Rating: 200V; Supplier: LCSC; Supplier Part Number: C2933887; Resistance: 24R; Tolerance: 1%; Power: 750mW
footprint RES SMD 1812
pins: 1, 2

## RES 1812 24R 5%
designator C?, comment 24R
24R 5% 750mW 1812 Thick Film Resistor; Manufacturer: FOJAN; Manufacturer Part Number: FRC1812J240 TS; Voltage Rating: 200V; Supplier: LCSC; Supplier Part Number: C5126254; Resistance: 24R; Tolerance: 5%; Power: 750mW
footprint RES SMD 1812
pins: 1, 2

## RES 1812 27k 1%
designator C?, comment 27k
27kR 1% 750mW 1812 Thick Film Resistor; Manufacturer: FOJAN; Manufacturer Part Number: FRC1812F2702TS; Voltage Rating: 200V; Supplier: LCSC; Supplier Part Number: C2999519; Resistance: 27k; Tolerance: 1%; Power: 750mW
footprint RES SMD 1812
pins: 1, 2

## RES 1812 27k 5%
designator C?, comment 27k
27kR 5% 750mW 1812 Thick Film Resistor; Manufacturer: FOJAN; Manufacturer Part Number: FRC1812J273TS; Voltage Rating: 200V; Supplier: LCSC; Supplier Part Number: C3000783; Resistance: 27k; Tolerance: 5%; Power: 750mW
footprint RES SMD 1812
pins: 1, 2

## RES 1812 27R 1%
designator C?, comment 27R
27R 1% 750mW 1812 Thick Film Resistor; Manufacturer: FOJAN; Manufacturer Part Number: FRC1812F27R0TS; Voltage Rating: 200V; Supplier: LCSC; Supplier Part Number: C2933888; Resistance: 27R; Tolerance: 1%; Power: 750mW
footprint RES SMD 1812
pins: 1, 2

## RES 1812 27R 5%
designator C?, comment 27R
27R 5% 750mW 1812 Thick Film Resistor; Manufacturer: FOJAN; Manufacturer Part Number: FRC1812J270 TS; Voltage Rating: 200V; Supplier: LCSC; Supplier Part Number: C2933940; Resistance: 27R; Tolerance: 5%; Power: 750mW
footprint RES SMD 1812
pins: 1, 2

## RES 1812 30k 1%
designator C?, comment 30k
30kR 1% 750mW 1812 Thick Film Resistor; Manufacturer: FOJAN; Manufacturer Part Number: FRC1812F3002TS; Voltage Rating: 200V; Supplier: LCSC; Supplier Part Number: C2933893; Resistance: 30k; Tolerance: 1%; Power: 750mW
footprint RES SMD 1812
pins: 1, 2

## RES 1812 30k 5%
designator C?, comment 30k
30kR 5% 750mW 1812 Thick Film Resistor; Manufacturer: FOJAN; Manufacturer Part Number: FRC1812J303 TS; Voltage Rating: 200V; Supplier: LCSC; Supplier Part Number: C5126045; Resistance: 30k; Tolerance: 5%; Power: 750mW
footprint RES SMD 1812
pins: 1, 2

## RES 1812 30mR 5%
designator C?, comment 30mR
30mR 750mW Thick Film Resistor 1200ppm/â„ƒ 5% 1812 Chip Resistor - Surface Mount RoHS; Manufacturer: FOJAN; Manufacturer Part Number: FRL1812JR030TS; Supplier: LCSC; Supplier Part Number: C7467359; Resistance: 30mR; Tolerance: 5%; Power: 750mW
footprint RES SMD 1812
pins: 1, 2

## RES 1812 30R 1%
designator C?, comment 30R
30R 750mW 200V Thick Film Resistor 100ppm/â„ƒ 1% 1812 Chip Resistor - Surface Mount RoHS; Manufacturer: FOJAN; Manufacturer Part Number: FRC1812F30R0TS; Supplier: LCSC; Supplier Part Number: C19267403; Resistance: 30R; Tolerance: 1%; Voltage Rating: 200V; Power: 750mW
footprint RES SMD 1812
pins: 1, 2

## RES 1812 30R 5%
designator C?, comment 30R
30R 5% 750mW 1812 Thick Film Resistor; Manufacturer: FOJAN; Manufacturer Part Number: FRC1812J300 TS; Voltage Rating: 200V; Supplier: LCSC; Supplier Part Number: C2933945; Resistance: 30R; Tolerance: 5%; Power: 750mW
footprint RES SMD 1812
pins: 1, 2

## RES 1812 33k 1%
designator C?, comment 33k
33kR 1% 750mW 1812 Thick Film Resistor; Manufacturer: FOJAN; Manufacturer Part Number: FRC1812F3302TS; Voltage Rating: 200V; Supplier: LCSC; Supplier Part Number: C2960884; Resistance: 33k; Tolerance: 1%; Power: 750mW
footprint RES SMD 1812
pins: 1, 2

## RES 1812 33k 5%
designator C?, comment 33k
33kR 750mW 200V Thick Film Resistor 5% 100ppm/â„ƒ 1812 Chip Resistor - Surface Mount RoHS; Manufacturer: FOJAN; Manufacturer Part Number: FRC1812J333 TS; Supplier: LCSC; Supplier Part Number: C7467368; Resistance: 33k; Tolerance: 5%; Voltage Rating: 200V; Power: 750mW
footprint RES SMD 1812
pins: 1, 2

## RES 1812 33R 1%
designator C?, comment 33R
33R 1% 750mW 1812 Thick Film Resistor; Manufacturer: FOJAN; Manufacturer Part Number: FRC1812F33R0TS; Voltage Rating: 200V; Supplier: LCSC; Supplier Part Number: C2933894; Resistance: 33R; Tolerance: 1%; Power: 750mW
footprint RES SMD 1812
pins: 1, 2

## RES 1812 33R 5%
designator C?, comment 33R
33R 5% 750mW 1812 Thick Film Resistor; Manufacturer: FOJAN; Manufacturer Part Number: FRC1812J330 TS; Voltage Rating: 200V; Supplier: LCSC; Supplier Part Number: C2933949; Resistance: 33R; Tolerance: 5%; Power: 750mW
footprint RES SMD 1812
pins: 1, 2

## RES 1812 34k 1%
designator C?, comment 34k
34kR 750mW 200V Thick Film Resistor 1% 100ppm/â„ƒ 1812 Chip Resistor - Surface Mount RoHS; Manufacturer: FOJAN; Manufacturer Part Number: FRC1812F3402TS; Supplier: LCSC; Supplier Part Number: C7467347; Resistance: 34k; Tolerance: 1%; Voltage Rating: 200V; Power: 750mW
footprint RES SMD 1812
pins: 1, 2

## RES 1812 36k 5%
designator C?, comment 36k
36kR 5% 750mW 1812 Thick Film Resistor; Manufacturer: FOJAN; Manufacturer Part Number: FRC1812J363 TS; Voltage Rating: 200V; Supplier: LCSC; Supplier Part Number: C5126143; Resistance: 36k; Tolerance: 5%; Power: 750mW
footprint RES SMD 1812
pins: 1, 2

## RES 1812 36R 1%
designator C?, comment 36R
36R 1% 750mW 1812 Thick Film Resistor; Manufacturer: FOJAN; Manufacturer Part Number: FRC1812F36R0TS; Voltage Rating: 200V; Supplier: LCSC; Supplier Part Number: C5126085; Resistance: 36R; Tolerance: 1%; Power: 750mW
footprint RES SMD 1812
pins: 1, 2

## RES 1812 36R 5%
designator C?, comment 36R
36R 5% 750mW 1812 Thick Film Resistor; Manufacturer: FOJAN; Manufacturer Part Number: FRC1812J360 TS; Voltage Rating: 200V; Supplier: LCSC; Supplier Part Number: C2960891; Resistance: 36R; Tolerance: 5%; Power: 750mW
footprint RES SMD 1812
pins: 1, 2

## RES 1812 39k 5%
designator C?, comment 39k
39kR 5% 750mW 1812 Thick Film Resistor; Manufacturer: FOJAN; Manufacturer Part Number: FRC1812J393 TS; Voltage Rating: 200V; Supplier: LCSC; Supplier Part Number: C2960906; Resistance: 39k; Tolerance: 5%; Power: 750mW
footprint RES SMD 1812
pins: 1, 2

## RES 1812 39R 1%
designator C?, comment 39R
39R 1% 750mW 1812 Thick Film Resistor; Manufacturer: FOJAN; Manufacturer Part Number: FRC1812F39R0TS; Voltage Rating: 200V; Supplier: LCSC; Supplier Part Number: C3013293; Resistance: 39R; Tolerance: 1%; Power: 750mW
footprint RES SMD 1812
pins: 1, 2

## RES 1812 39R 5%
designator C?, comment 39R
39R 5% 750mW 1812 Thick Film Resistor; Manufacturer: FOJAN; Manufacturer Part Number: FRC1812J390 TS; Voltage Rating: 200V; Supplier: LCSC; Supplier Part Number: C2933954; Resistance: 39R; Tolerance: 5%; Power: 750mW
footprint RES SMD 1812
pins: 1, 2

## RES 1812 43k 5%
designator C?, comment 43k
43kR 5% 750mW 1812 Thick Film Resistor; Manufacturer: FOJAN; Manufacturer Part Number: FRC1812J433 TS; Voltage Rating: 200V; Supplier: LCSC; Supplier Part Number: C5126087; Resistance: 43k; Tolerance: 5%; Power: 750mW
footprint RES SMD 1812
pins: 1, 2

## RES 1812 43R 5%
designator C?, comment 43R
43R 5% 750mW 1812 Thick Film Resistor; Manufacturer: FOJAN; Manufacturer Part Number: FRC1812J430 TS; Voltage Rating: 200V; Supplier: LCSC; Supplier Part Number: C2960897; Resistance: 43R; Tolerance: 5%; Power: 750mW
footprint RES SMD 1812
pins: 1, 2

## RES 1812 47k 1%
designator C?, comment 47k
47kR 750mW 200V Thick Film Resistor 1% 100ppm/â„ƒ 1812 Chip Resistor - Surface Mount RoHS; Manufacturer: FOJAN; Manufacturer Part Number: FRC1812F4702TS; Supplier: LCSC; Supplier Part Number: C7467409; Resistance: 47k; Tolerance: 1%; Voltage Rating: 200V; Power: 750mW
footprint RES SMD 1812
pins: 1, 2

## RES 1812 47k 5%
designator C?, comment 47k
47kR 5% 750mW 1812 Thick Film Resistor; Manufacturer: FOJAN; Manufacturer Part Number: FRC1812J473 TS; Voltage Rating: 200V; Supplier: LCSC; Supplier Part Number: C2933962; Resistance: 47k; Tolerance: 5%; Power: 750mW
footprint RES SMD 1812
pins: 1, 2

## RES 1812 47R 1%
designator C?, comment 47R
47R 1% 750mW 1812 Thick Film Resistor; Manufacturer: FOJAN; Manufacturer Part Number: FRC1812F47R0TS; Voltage Rating: 200V; Supplier: LCSC; Supplier Part Number: C5204033; Resistance: 47R; Tolerance: 1%; Power: 750mW
footprint RES SMD 1812
pins: 1, 2

## RES 1812 47R 5%
designator C?, comment 47R
47R 5% 750mW 1812 Thick Film Resistor; Manufacturer: FOJAN; Manufacturer Part Number: FRC1812J470 TS; Voltage Rating: 200V; Supplier: LCSC; Supplier Part Number: C2933959; Resistance: 47R; Tolerance: 5%; Power: 750mW
footprint RES SMD 1812
pins: 1, 2

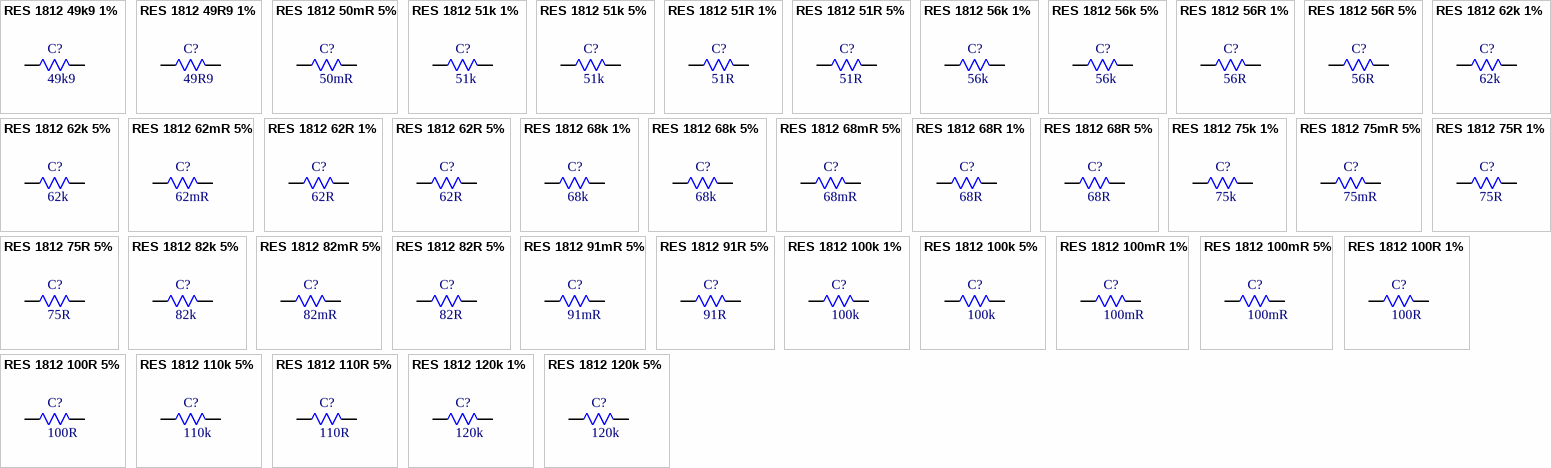
[diagram p96: symbols RES 1812 49k9 1% to RES 1812 120k 5%]